# EAGLE library part DS1005M-XXX (library 1A-meinLib)
Verzögerungsleitung, 5-stufig, DALLAS
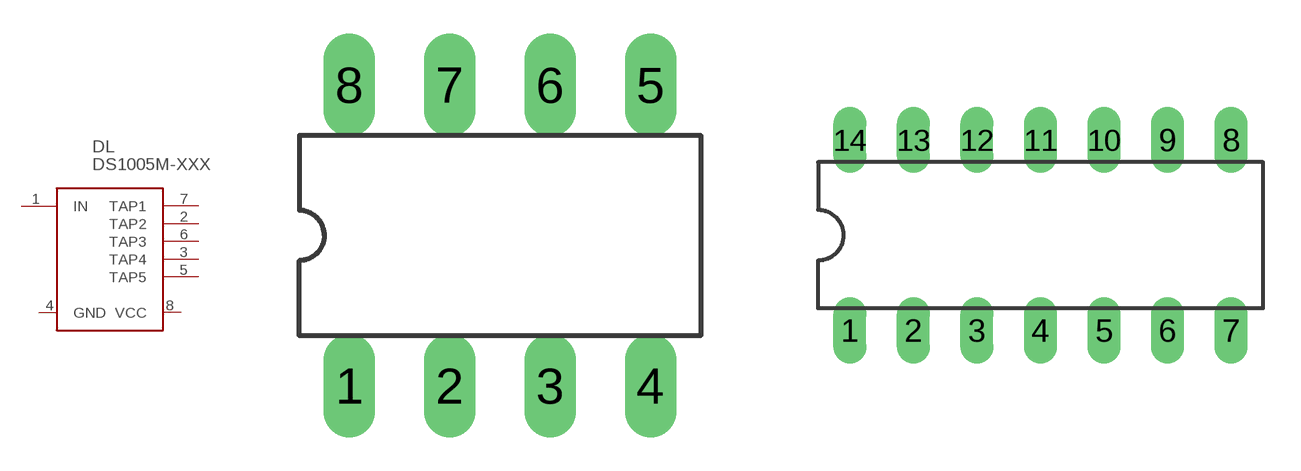
[diagram p16: symbol with the pads of DIL8; footprints DIL8, DIL14]

Designator prefix DL

## DS1005M-XXX  [DIL8]
1  IN  in
2  TAP2  out
3  TAP4  out
4  GND  pwr
5  TAP5  out
6  TAP3  out
7  TAP1  out
8  VCC  pwr

## DS1005M-XXX-DIL14  [DIL14]
1  IN  in
4  TAP2  out
6  TAP4  out
7  GND  pwr
8  TAP5  out
10  TAP3  out
12  TAP1  out
14  VCC  pwr

## Footprint DIL8 (pad centres in mm)
drill 0.8 long: 1 -3.81,-3.81; 2 -1.27,-3.81; 3 1.27,-3.81; 4 3.81,-3.81; 5 3.81,3.81; 6 1.27,3.81; 7 -1.27,3.81; 8 -3.81,3.81

## Footprint DIL14 (pad centres in mm)
Dual In Line Package
drill 0.813 long: 1 -7.62,-3.81; 2 -5.08,-3.81; 3 -2.54,-3.81; 4 0,-3.81; 5 2.54,-3.81; 6 5.08,-3.81; 7 7.62,-3.81; 8 7.62,3.81; 9 5.08,3.81; 10 2.54,3.81; 11 0,3.81; 12 -2.54,3.81; 13 -5.08,3.81; 14 -7.62,3.81